# EAGLE library part BUCK_REGULATOR (library 00_drich)
datasheet <http://www.ti.com/lit/ds/symlink/tps62743.pdf>
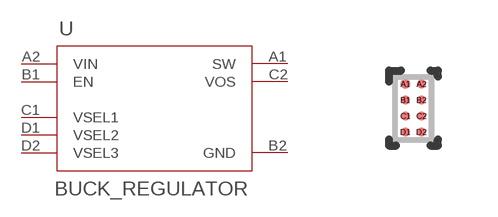
[diagram p1: symbol with the pads of YFP0008AGAC; footprint YFP0008AGAC]

Designator prefix U

## BUCK_REGULATOR (MPN: TPS62743YFPR; POPULATE: 1)  [YFP0008AGAC]
A1  SW  pwr
A2  VIN  pwr
B1  EN  in
B2  GND  pwr
C1  VSEL1  in
C2  VOS  in
D1  VSEL2  in
D2  VSEL3  in

## Footprint YFP0008AGAC (pad centres in mm)
smd 0.23 x 0.23: A1 -0.2,0.6; A2 0.2,0.6; B1 -0.2,0.2; B2 0.2,0.2; C1 -0.2,-0.2; C2 0.2,-0.2; D1 -0.2,-0.6; D2 0.2,-0.6